# Altium schematic symbol library MIC29302WU.SchLib: 1 symbol
Pins are listed as number, name and electrical type; pins without a type are passive.

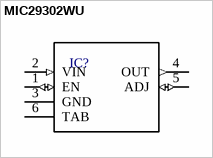
[diagram p0: symbol MIC29302WU]

## MIC29302WU
designator IC?  (value not drawn)
IC REG LDO ADJ 3A TO263-5; Manufacturer: Microchip Technology; Manufacturer Part Number: MIC29302AWU; Digi-Key Part Number: 576-4072-ND; Supplier Device Package: TO-263-5
footprint TO263-5
pins: 1 EN (io), 2 VIN (in), 3 GND (power), 4 OUT (out), 5 ADJ (io), 6 TAB